# Altium footprint library Co-DoubleDip.PcbLib: 2 footprints
Each footprint in its own frame and in the unit in brackets; x right, y up, seen from the top. Pads: shape width x height; smd on the part's side, far side on the other; paste and mask are expansions set on the pad; w line width, h text height; cw(c..) or ccw(c..) is an arc to the next point about the centre after c.
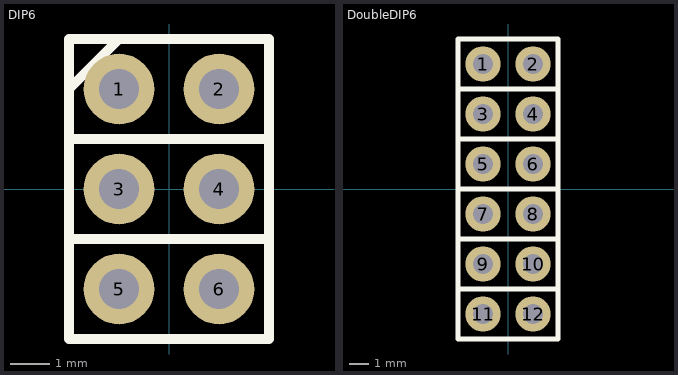
[diagram p0: the footprints below, top view; thin cyan lines are the x and y axes]

## DIP6 [mm]
height 5
pads (6):
  round 1.8 hole 1.012: 1(-1.27,2.54) 2(1.27,2.54) 3(-1.27,0) 4(1.27,0) 5(-1.27,-2.54) 6(1.27,-2.54)
Top Overlay:
  lines w0.254: -2.54,-1.27 2.54,-1.27 ; -2.54,1.27 2.54,1.27 ; -1.27,3.81 -2.54,2.54 -2.54,3.81 ; -2.54,3.81 -2.54,-3.81 2.54,-3.81 2.54,3.81 -2.54,3.81

## DoubleDIP6 [mm]
height 5
pads (12):
  round 1.8 hole 1.012: 1(-1.27,6.35) 2(1.27,6.35) 3(-1.27,3.81) 4(1.27,3.81) 5(-1.27,1.27) 6(1.27,1.27) 7(-1.27,-1.27) 8(1.27,-1.27) 9(-1.27,-3.81) 10(1.27,-3.81) 11(-1.27,-6.35) 12(1.27,-6.35)
Top Overlay:
  lines w0.254: -2.54,-5.08 2.54,-5.08 ; -2.54,-2.54 2.54,-2.54 ; -2.54,0 2.54,0 ; -2.54,2.54 2.54,2.54 ; -2.54,5.08 2.54,5.08 ; -2.54,-7.62 -2.54,7.62 2.54,7.62 2.54,-7.62 -2.54,-7.62